# Altium footprint library MOLEX_0026013115.PcbLib: 1 footprints
Each footprint in its own frame and in the unit in brackets; x right, y up, seen from the top. Pads: shape width x height; smd on the part's side, far side on the other; paste and mask are expansions set on the pad; w line width, h text height; cw(c..) or ccw(c..) is an arc to the next point about the centre after c.
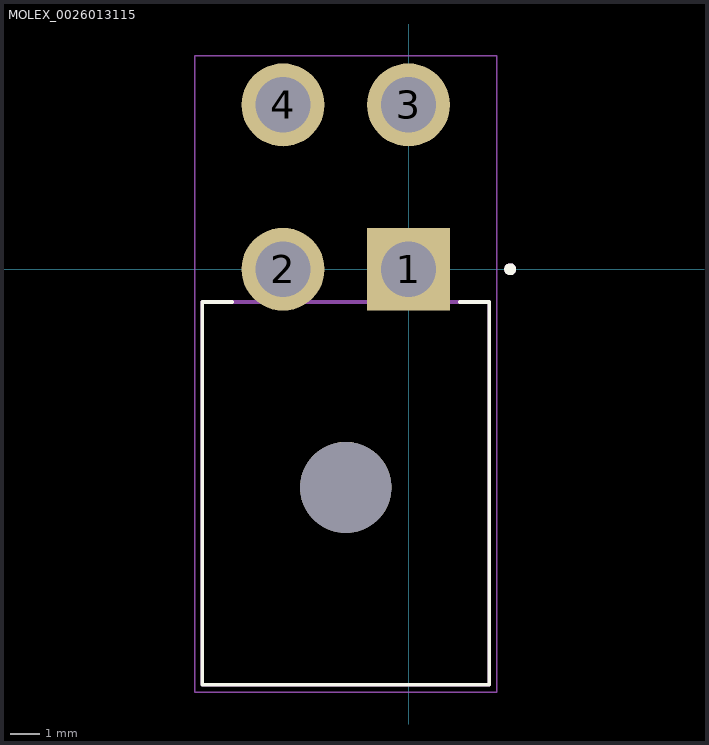
[diagram p0: the footprint, top view; thin cyan lines are the x and y axes]

## MOLEX_0026013115 [mm]
pads (5):
  rect 2.775x2.775 hole 1.85: 1(0,0)
  round 2.775 hole 1.85: 2(-4.2,0) 3(0,5.5) 4(-4.2,5.5)
  round 3.05 hole 3.05 unplated: ""(-2.1,-7.3)
Top Overlay:
  circle w0.2: c3.4,0 r0.1
  lines w0.127: -5.91,-1.1 -6.9,-1.1 -6.9,-13.9 2.7,-13.9 2.7,-1.1 1.71,-1.1
Mechanical 13:
  circle w0.2: c3.4,0 r0.1
  lines w0.127: -6.9,-13.9 2.7,-13.9 2.7,-1.1 -6.9,-1.1 -6.9,-13.9
Mechanical 15:
  lines w0.05: -7.15,-14.15 2.95,-14.15 2.95,7.14 -7.15,7.14 -7.15,-14.15